# Altium footprint library mw.PcbLib: 252 footprints (part 6 of 16)
Each footprint in its own frame and in the unit in brackets; x right, y up, seen from the top. Pads: shape width x height; smd on the part's side, far side on the other; paste and mask are expansions set on the pad; w line width, h text height; cw(c..) or ccw(c..) is an arc to the next point about the centre after c.
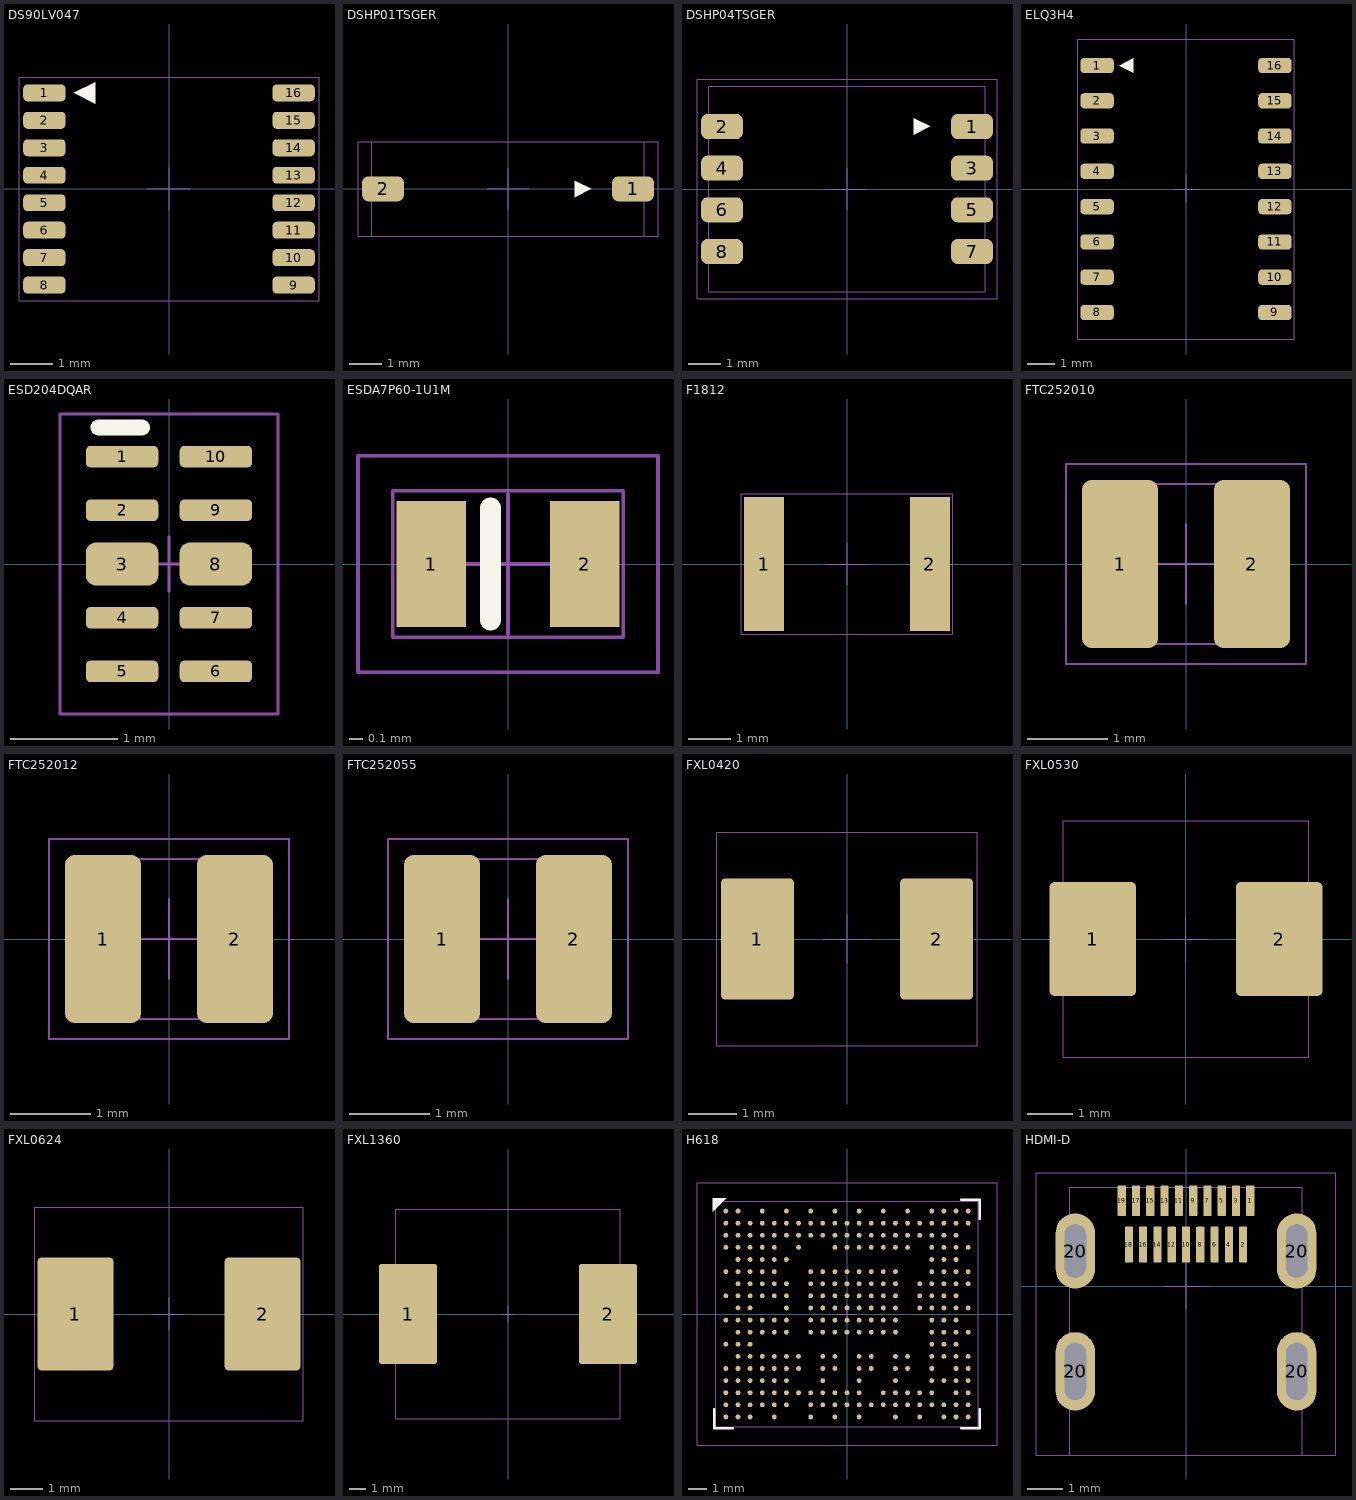
[diagram p5: the footprints below, top view; thin cyan lines are the x and y axes]

## DS90LV047 [mm]
height 1.2
pads (16):
  rrect50% 1x0.4 smd: 1(-2.95,2.275) 2(-2.95,1.625) 3(-2.95,0.975) 4(-2.95,0.325) 5(-2.95,-0.325) 6(-2.95,-0.975) 7(-2.95,-1.625) 8(-2.95,-2.275) 9(2.95,-2.275) 10(2.95,-1.625) 11(2.95,-0.975) 12(2.95,-0.325) 13(2.95,0.325) 14(2.95,0.975) 15(2.95,1.625) 16(2.95,2.275)
Top Overlay:
  region: -1.742,2.021 -1.742,2.529 -2.25,2.275
Top Courtyard:
  lines w0.025: -0.5,0 0.5,0 ; 0,-0.5 0,0.5 ; -3.55,-2.65 -3.55,2.65 3.55,2.65 3.55,-2.65 -3.55,-2.65
3D body "ds90lv047.STEP": height 1.2, standoff -0.02, extent -3.161,-2.515 3.263,2.487

## DSHP01TSGER [mm]
height 2.5
pads (2):
  rrect50% 1.27x0.76 smd: 1(3.81,0) 2(-3.81,0)
Top Overlay:
  region: 2.032,0.254 2.032,-0.254 2.54,0
Top 3D Body (Mech13):
  lines w0.025: -4.15,-1.444 4.15,-1.444 4.15,1.435 -4.15,1.435 -4.15,-1.444
Top Courtyard:
  lines w0.025: -0.635,0 0.635,0 ; 0,-0.635 0,0.635 ; -4.572,-1.444 -4.572,1.435 4.572,1.435 4.572,-1.444 -4.572,-1.444
3D body "DSHP01TSGER.step": height 2.31, standoff -0.07, extent -4.15,-1.444 4.15,1.435

## DSHP04TSGER [mm]
height 2.5
pads (8):
  rrect50% 1.27x0.76 smd: 1(3.81,1.905) 2(-3.81,1.905) 3(3.81,0.635) 4(-3.81,0.635) 5(3.81,-0.635) 6(-3.81,-0.635) 7(3.81,-1.905) 8(-3.81,-1.905)
Top Overlay:
  region: 2.032,2.159 2.032,1.651 2.54,1.905
Top 3D Body (Mech13):
  lines w0.025: -4.22,-3.125 4.22,-3.125 4.22,3.125 -4.22,3.125 -4.22,-3.125
Top Courtyard:
  lines w0.025: -0.635,0 0.635,0 ; 0,-0.635 0,0.635 ; -4.572,-3.34 -4.572,3.34 4.572,3.34 4.572,-3.34 -4.572,-3.34
3D body "DSHP04TSGER.step": height 2.65, standoff 0, extent -4.22,-3.125 4.22,3.125

## ELQ3H4 [mm]
height 2
pads (16):
  rrect50% 1.2x0.55 smd: 1(-3.2,4.445) 2(-3.2,3.175) 3(-3.2,1.905) 4(-3.2,0.635) 5(-3.2,-0.635) 6(-3.2,-1.905) 7(-3.2,-3.175) 8(-3.2,-4.445) 9(3.2,-4.445) 10(3.2,-3.175) 11(3.2,-1.905) 12(3.2,-0.635) 13(3.2,0.635) 14(3.2,1.905) 15(3.2,3.175) 16(3.2,4.445)
Top Overlay:
  region: -1.892,4.191 -1.892,4.699 -2.4,4.445
Top Courtyard:
  lines w0.025: -0.5,0 0.5,0 ; 0,-0.5 0,0.5 ; -3.9,-5.4 3.9,-5.4 3.9,5.4 -3.9,5.4 -3.9,-5.4

## ESD204DQAR [mm]
pads (10):
  rrect45% 0.675x0.2 smd: 1(-0.437,1) 2(-0.437,0.5) 4(-0.437,-0.5) 5(-0.437,-1) 6(0.437,-1) 7(0.437,-0.5) 9(0.437,0.5) 10(0.437,1)
  rrect45% 0.675x0.4 smd paste-0.041: 3(-0.437,0) 8(0.437,0)
Top Overlay:
  lines w0.15: -0.654,1.27 -0.254,1.27
Top Courtyard:
  lines w0.025: -0.254,0 0.254,0 ; 0,-0.254 0,0.254 ; -1.016,-1.397 1.016,-1.397 1.016,1.397 -1.016,1.397 -1.016,-1.397
3D body "TPESD8004MUTAG.step": height 0.5, standoff -0.03, extent -0.5,-1.25 0.5,1.25

## ESDA7P60-1U1M [mm] "DFN, 2-Leads, Body 1.00x1.60mm, Pitch 1.10mm, IPC Medium Density"
height 0.5
pads (2):
  rect 0.5x0.9 smd: 1(-0.55,0) 2(0.55,0)
Top Overlay:
  lines w0.15: -0.125,-0.4 -0.125,0.4
Top 3D Body (Mech13):
  lines w0.025: -0.825,-0.525 0.825,-0.525 0.825,0.525 -0.825,0.525 -0.825,-0.525
Top Courtyard:
  lines w0.025: -0.5,0 0.5,0 ; 0,-0.5 0,0.5 ; -1.075,-0.775 1.075,-0.775 1.075,0.775 -1.075,0.775 -1.075,-0.775
3D body "ESDA7P60-1U1M.step": height 0.5, standoff 0, extent -0.825,-0.525 0.825,0.525

## F1812 [mm] "FUSE_1812"
pads (2):
  rect 0.95x3.2 smd: 1(-1.975,0) 2(1.975,0)
Top Courtyard:
  lines w0.025: -0.5,0 0.5,0 ; 0,-0.5 0,0.5 ; -2.515,-1.676 2.515,-1.676 2.515,1.676 -2.515,1.676 -2.515,-1.676
3D body "F1812.step": height 0.71, standoff -0.01, extent -2.253,-1.607 2.297,1.643

## FTC252010 [mm] "DFN, 2-Leads, Body 2.50x2.00mm, Pitch 1.65mm, IPC Medium Density"
height 1
pads (2):
  rrect25% 0.95x2.1 smd: 1(-0.825,0) 2(0.825,0)
Top Assembly (Mech9):
  circle w0.1: c-0.737,0.487 r0.25
Top 3D Body (Mech13):
  lines w0.025: -1.25,-1.001 -1.25,1.001 1.25,1.001 1.25,-1.001 -1.25,-1.001
Top Courtyard:
  lines w0.025: -0.5,0 0.5,0 ; 0,-0.5 0,0.5 ; -1.5,-1.25 1.5,-1.25 1.5,1.25 -1.5,1.25 -1.5,-1.25
3D body "FTC252010S.step": height 1, standoff 0, extent -1.25,-1.001 1.25,1.001

## FTC252012 [mm] "DFN, 2-Leads, Body 2.50x2.00mm, Pitch 1.65mm, IPC Medium Density"
height 1
pads (2):
  rrect25% 0.95x2.1 smd: 1(-0.825,0) 2(0.825,0)
Top Assembly (Mech9):
  circle w0.1: c-0.737,0.487 r0.25
Top 3D Body (Mech13):
  lines w0.025: -1.25,-1.001 1.25,-1.001 1.25,1.001 -1.25,1.001 -1.25,-1.001
Top Courtyard:
  lines w0.025: -0.5,0 0.5,0 ; 0,-0.5 0,0.5 ; -1.5,-1.25 -1.5,1.25 1.5,1.25 1.5,-1.25 -1.5,-1.25
3D body "FTC252012S.step": height 1.2, standoff 0, extent -1.25,-1.002 1.25,1.002

## FTC252055 [mm] "DFN, 2-Leads, Body 2.50x2.00mm, Pitch 1.65mm, IPC Medium Density"
height 1
pads (2):
  rrect25% 0.95x2.1 smd: 1(-0.825,0) 2(0.825,0)
Top Assembly (Mech9):
  circle w0.1: c-0.737,0.487 r0.25
Top 3D Body (Mech13):
  lines w0.025: -1.25,-1.001 1.25,-1.001 1.25,1.001 -1.25,1.001 -1.25,-1.001
Top Courtyard:
  lines w0.025: -0.5,0 0.5,0 ; 0,-0.5 0,0.5 ; -1.5,-1.25 -1.5,1.25 1.5,1.25 1.5,-1.25 -1.5,-1.25
3D body "FTC252055S.step": height 0.55, standoff 0, extent -1.25,-1.001 1.25,1.001

## FXL0420 [mm]
pads (2):
  rrect10% 1.5x2.5 smd: 1(-1.85,0) 2(1.85,0)
Top Courtyard:
  lines w0.025: -0.5,0 0.5,0 ; 0,-0.5 0,0.5 ; -2.692,-2.202 2.692,-2.202 2.692,2.202 -2.692,2.202 -2.692,-2.202
3D body "FXL0420.step": height 1.85, standoff 0, extent -2.285,-2.1 2.275,2.1

## FXL0530 [mm]
pads (2):
  rrect10% 1.9x2.5 smd: 1(-2.05,0) 2(2.05,0)
Top 3D Body (Mech13):
  lines w0.025: -2.7,-2.6 2.7,-2.6 2.7,2.6 -2.7,2.6 -2.7,-2.6
Top Courtyard:
  lines w0.025: -0.5,0 0.5,0 ; 0,-0.5 0,0.5 ; -2.7,-2.6 2.7,-2.6 2.7,2.6 -2.7,2.6 -2.7,-2.6
3D body "FXL0530.step": height 2.9, standoff 0, extent -2.85,-2.6 2.87,2.6

## FXL0624 [mm]
pads (2):
  rrect10% 2.35x3.5 smd: 1(-2.9,0) 2(2.9,0)
Top Courtyard:
  lines w0.025: -0.5,0 0.5,0 ; 0,-0.5 0,0.5 ; -4.166,-3.302 4.166,-3.302 4.166,3.302 -4.166,3.302 -4.166,-3.302
3D body "FXL0624.step": height 2.3, standoff 0, extent -3.67,-3.3 3.65,3.3

## FXL1360 [mm]
pads (2):
  rrect10% 3.5x6 smd: 1(-6,0) 2(6,0)
Top Courtyard:
  lines w0.025: -0.5,0 0.5,0 ; 0,-0.5 0,0.5 ; -6.725,-6.3 -6.725,6.3 6.725,6.3 6.725,-6.3 -6.725,-6.3
3D body "FXL1360.step": height 5.95, standoff 0, extent -6.98,-6.3 6.95,6.3

## H618 [mm] "BGA, 284-Leads, Body 14.00x12.00mmx1.17mm, Pitch 0.65mm"
height 1.17
pads (284):
  round 0.255 smd: A1(-6.5,5.525) A2(-5.85,5.525) A4(-4.55,5.525) A6(-3.25,5.525) A8(-1.95,5.525) A10(-0.65,5.525) A12(0.65,5.525) A14(1.95,5.525) A16(3.25,5.525) A18(4.55,5.525) A19(5.2,5.525) A20(5.85,5.525) A21(6.5,5.525) B1(-6.5,4.875) B2(-5.85,4.875) B3(-5.2,4.875) B4(-4.55,4.875) B5(-3.9,4.875) B6(-3.25,4.875) B7(-2.6,4.875) B8(-1.95,4.875) B9(-1.3,4.875) B10(-0.65,4.875) B11(0,4.875) B12(0.65,4.875) B13(1.3,4.875) B14(1.95,4.875) B15(2.6,4.875) B16(3.25,4.875) B17(3.9,4.875) B18(4.55,4.875) B19(5.2,4.875) B20(5.85,4.875) B21(6.5,4.875) C1(-6.5,4.225) C2(-5.85,4.225) C3(-5.2,4.225) C4(-4.55,4.225) C5(-3.9,4.225) C6(-3.25,4.225) C7(-2.6,4.225) C8(-1.95,4.225) C9(-1.3,4.225) C10(-0.65,4.225) C11(0,4.225) C12(0.65,4.225) C13(1.3,4.225) C14(1.95,4.225) C15(2.6,4.225) C16(3.25,4.225) C17(3.9,4.225) C18(4.55,4.225) C19(5.2,4.225) C20(5.85,4.225) D1(-6.5,3.575) D2(-5.85,3.575) D3(-5.2,3.575) D4(-4.55,3.575) D5(-3.9,3.575) D7(-2.6,3.575) D10(-0.65,3.575) D11(0,3.575) D12(0.65,3.575) D13(1.3,3.575) D14(1.95,3.575) D15(2.6,3.575) D16(3.25,3.575) D18(4.55,3.575) D19(5.2,3.575) D20(5.85,3.575) D21(6.5,3.575) E2(-5.85,2.925) E3(-5.2,2.925) E4(-4.55,2.925) E5(-3.9,2.925) E6(-3.25,2.925) E18(4.55,2.925) E19(5.2,2.925) E20(5.85,2.925) F1(-6.5,2.275) F2(-5.85,2.275) F3(-5.2,2.275) F4(-4.55,2.275) F5(-3.9,2.275) F8(-1.95,2.275) F9(-1.3,2.275) F10(-0.65,2.275) F11(0,2.275) F12(0.65,2.275) F13(1.3,2.275) F14(1.95,2.275) F15(2.6,2.275) F18(4.55,2.275) F19(5.2,2.275) F20(5.85,2.275) F21(6.5,2.275) G2(-5.85,1.625) G3(-5.2,1.625) G4(-4.55,1.625) G5(-3.9,1.625) G6(-3.25,1.625) G8(-1.95,1.625) G9(-1.3,1.625) G10(-0.65,1.625) G11(0,1.625) G12(0.65,1.625) G13(1.3,1.625) G14(1.95,1.625) G15(2.6,1.625) G17(3.9,1.625) G18(4.55,1.625) G19(5.2,1.625) G20(5.85,1.625) G21(6.5,1.625) H1(-6.5,0.975) H2(-5.85,0.975) H3(-5.2,0.975) H4(-4.55,0.975) H5(-3.9,0.975) H6(-3.25,0.975) H8(-1.95,0.975) H9(-1.3,0.975) H10(-0.65,0.975) H11(0,0.975) H12(0.65,0.975) H13(1.3,0.975) H14(1.95,0.975) H15(2.6,0.975) H17(3.9,0.975) H18(4.55,0.975) H19(5.2,0.975) H20(5.85,0.975) J2(-5.85,0.325) J3(-5.2,0.325) J6(-3.25,0.325) J8(-1.95,0.325) J9(-1.3,0.325) J10(-0.65,0.325) J11(0,0.325) J12(0.65,0.325) J13(1.3,0.325) J14(1.95,0.325) J15(2.6,0.325) J17(3.9,0.325) J18(4.55,0.325) J19(5.2,0.325) J20(5.85,0.325) J21(6.5,0.325) K1(-6.5,-0.325) K2(-5.85,-0.325) K3(-5.2,-0.325) K4(-4.55,-0.325) K5(-3.9,-0.325) K6(-3.25,-0.325) K8(-1.95,-0.325) K9(-1.3,-0.325) K10(-0.65,-0.325) K11(0,-0.325) K12(0.65,-0.325) K13(1.3,-0.325) K14(1.95,-0.325) K15(2.6,-0.325) K18(4.55,-0.325) K19(5.2,-0.325) K20(5.85,-0.325) L2(-5.85,-0.975) L3(-5.2,-0.975) L4(-4.55,-0.975) L5(-3.9,-0.975) L6(-3.25,-0.975) L8(-1.95,-0.975) L9(-1.3,-0.975) L10(-0.65,-0.975) L11(0,-0.975) L12(0.65,-0.975) L13(1.3,-0.975) L14(1.95,-0.975) L15(2.6,-0.975) L18(4.55,-0.975) L19(5.2,-0.975) L20(5.85,-0.975) L21(6.5,-0.975) M1(-6.5,-1.625) M2(-5.85,-1.625) M3(-5.2,-1.625) M18(4.55,-1.625) M19(5.2,-1.625) M20(5.85,-1.625) N2(-5.85,-2.275) N3(-5.2,-2.275) N4(-4.55,-2.275) N5(-3.9,-2.275) N6(-3.25,-2.275) N7(-2.6,-2.275) N9(-1.3,-2.275) N10(-0.65,-2.275) N12(0.65,-2.275) N13(1.3,-2.275) N15(2.6,-2.275) N16(3.25,-2.275) N18(4.55,-2.275) N19(5.2,-2.275) N20(5.85,-2.275) N21(6.5,-2.275) P1(-6.5,-2.925) P2(-5.85,-2.925) P3(-5.2,-2.925) P4(-4.55,-2.925) P5(-3.9,-2.925) P6(-3.25,-2.925) P7(-2.6,-2.925) P9(-1.3,-2.925) P10(-0.65,-2.925) P12(0.65,-2.925) P13(1.3,-2.925) P15(2.6,-2.925) P16(3.25,-2.925) P18(4.55,-2.925) P20(5.85,-2.925) P21(6.5,-2.925) R1(-6.5,-3.575) R2(-5.85,-3.575) R3(-5.2,-3.575) R4(-4.55,-3.575) R5(-3.9,-3.575) R6(-3.25,-3.575) R9(-1.3,-3.575) R12(0.65,-3.575) R15(2.6,-3.575) R18(4.55,-3.575) R19(5.2,-3.575) R20(5.85,-3.575) R21(6.5,-3.575) T1(-6.5,-4.225) T2(-5.85,-4.225) T3(-5.2,-4.225) T4(-4.55,-4.225) T5(-3.9,-4.225) T6(-3.25,-4.225) T7(-2.6,-4.225) T8(-1.95,-4.225) T9(-1.3,-4.225) T10(-0.65,-4.225) T11(0,-4.225) T12(0.65,-4.225) T14(1.95,-4.225) T15(2.6,-4.225) T16(3.25,-4.225) T17(3.9,-4.225) T18(4.55,-4.225) T20(5.85,-4.225) T21(6.5,-4.225) U1(-6.5,-4.875) U2(-5.85,-4.875) U3(-5.2,-4.875) U4(-4.55,-4.875) U5(-3.9,-4.875) U6(-3.25,-4.875) U8(-1.95,-4.875) U9(-1.3,-4.875) U10(-0.65,-4.875) U11(0,-4.875) U12(0.65,-4.875) U13(1.3,-4.875) U14(1.95,-4.875) U15(2.6,-4.875) U16(3.25,-4.875) U17(3.9,-4.875) U18(4.55,-4.875) U19(5.2,-4.875) U20(5.85,-4.875) U21(6.5,-4.875) V1(-6.5,-5.525) V2(-5.85,-5.525) V3(-5.2,-5.525) V5(-3.9,-5.525) V8(-1.95,-5.525) V10(-0.65,-5.525) V12(0.65,-5.525) V15(2.6,-5.525) V17(3.9,-5.525) V19(5.2,-5.525) V20(5.85,-5.525) V21(6.5,-5.525)
Top Overlay:
  region: -6.489,6.202 -7.202,5.489 -7.202,6.202
  lines w0.15: -7.127,-5.127 -7.127,-6.127 -6.127,-6.127 ; 6.127,-6.127 7.127,-6.127 7.127,-5.127 ; 6.127,6.127 7.127,6.127 7.127,5.127
Top 3D Body (Mech13):
  lines w0.025: -7.05,-6.05 -7.05,6.05 7.05,6.05 7.05,-6.05 -7.05,-6.05
Top Courtyard:
  lines w0.025: -0.5,0 0.5,0 ; 0,-0.5 0,0.5 ; -8.05,-7.05 -8.05,7.05 8.05,7.05 8.05,-7.05 -8.05,-7.05
3D body "H618.step": height 1.33, standoff 0, extent -7,-6 7,6

## HDMI-D [mm]
height 3
pads (23):
  rrect20% 0.23x0.85 smd: 1(1.8,2.388) 3(1.4,2.388) 5(1,2.388) 7(0.6,2.388) 9(0.2,2.388) 11(-0.2,2.388) 13(-0.6,2.388) 15(-1,2.388) 17(-1.4,2.388) 19(-1.8,2.388)
  rrect20% 0.23x1 smd: 2(1.6,1.163) 4(1.2,1.163) 6(0.8,1.163) 8(0.4,1.163) 10(0,1.163) 12(-0.4,1.163) 14(-0.8,1.163) 16(-1.2,1.163) 18(-1.6,1.163)
  oval 1.1x2.2 hole 0.6 slot 1.6 at 90 deg: 20(-3.1,-2.387) 20(3.1,-2.387)
  oval 1.1x2.1 hole 0.6 slot 1.5 at 90 deg: 20(-3.1,0.983) 20(3.1,0.983)
Top 3D Body (Mech13):
  lines w0.025: -3.25,-4.737 3.25,-4.737 3.25,2.768 -3.25,2.768 -3.25,-4.737
Top Courtyard:
  lines w0.025: -0.635,0 0.635,0 ; 0,-0.635 0,0.635 ; -4.191,-4.737 4.191,-4.737 4.191,3.175 -4.191,3.175 -4.191,-4.737
3D body "HDMI-D.step": height 3.05, standoff -1.1, extent -3.25,-4.737 3.25,2.768